# Altium schematic symbol library WE-PD.SchLib: 12 symbols
Pins are listed as number, name and electrical type; pins without a type are passive.

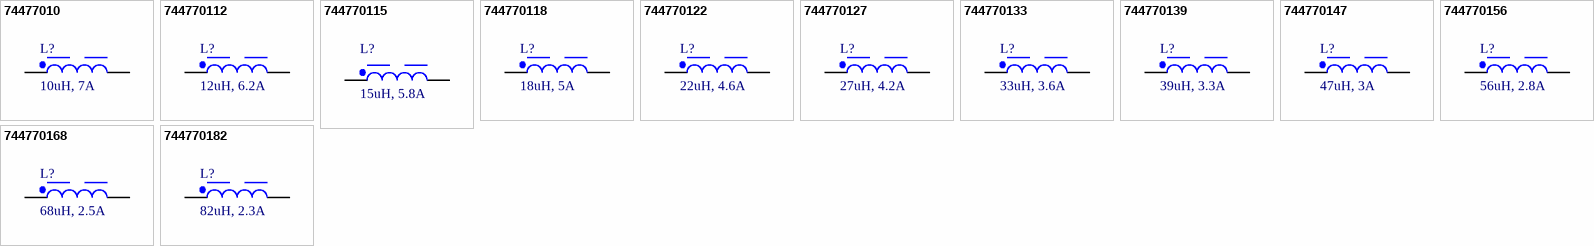
[diagram p0: symbols 74477010 to 744770182]

## 74477010
designator L?, comment 10uH, 7A
WE-PD SMT Power Inductor, size 1280, 10uH, 7A, 20mOhm; Manufacturer Part Number: 74477010; Manufacturer: Wurth Elektronik; Case/Size Code: 1280; DC Resistance: 15mOhm; Saturation Current: 7.5A; Self Resonant Frequency: 18MHz; Type: Standard; Category: Power Inductors; Match Code: WE-PD; ComponentLink1Description: Datasheet; ComponentLink1URL: https://www.we-online.com/redexpert/spec/74477010?ad; Mount: Surface Mount; Operating Temperature Max: 125°C; Operating Temperature Min: -40°C; Packaging: Tape and Reel; Length: 12mm; Width: 12mm; Height: 8mm; DC Resistance Max: 20mOhm; Inductance: 10uH; Rated Current: 7A; Supplier 1 URL: https://www.mouser.com/ProductDetail/Wurth-Elektronik/74477010?qs=E%2F%2FhvbtCqpN9eEwYoxClfg%3D%3D&utm_source=mouser-refine-download&utm_medium=file&utm_campaign=74477010&utm_content=Wurth-Elektronik; Supplier 2 URL: https://www.digikey.com/en/products/detail/w%C3%BCrth-elektronik/74477010/1638628; Supplier 3 URL: https://www.thegioiic.com/cdrh127-cuon-cam-dan-smd-1280-100-10uh-7-8a; Value: 10uH, 7A; LCSC Part #: N/A; Supplier 1: Mouser; Supplier 1 Part Number: 710-74477010; Supplier 2: Digi-Key; Supplier 2 Part Number: 732-1223-2-ND; Supplier 3: thegioiic; Supplier 3 Part Number: N/A
footprint WE-PD_1280
simulation model 1280_74477010_10u
pins: 1, 2

## 744770112
designator L?, comment 12uH, 6.2A
WE-PD SMT Power Inductor, size 1280, 12uH, 6.2A, 21mOhm; Manufacturer Part Number: 744770112; Manufacturer: Wurth Elektronik; Case/Size Code: 1280; DC Resistance: 16mOhm; Saturation Current: 6.5A; Self Resonant Frequency: 16MHz; Type: Standard; Category: Power Inductors; Match Code: WE-PD; ComponentLink1Description: Datasheet; ComponentLink1URL: https://www.we-online.com/redexpert/spec/744770112?ad; Mount: Surface Mount; Operating Temperature Max: 125°C; Operating Temperature Min: -40°C; Packaging: Tape and Reel; Length: 12mm; Width: 12mm; Height: 8mm; DC Resistance Max: 21mOhm; Inductance: 12uH; Rated Current: 6.2A; Supplier 1 URL: https://www.mouser.com/ProductDetail/Wurth-Elektronik/744770112?qs=E%2F%2FhvbtCqpOJhaQEzaGKow%3D%3D&utm_source=mouser-refine-download&utm_medium=file&utm_campaign=744770112&utm_content=Wurth-Elektronik; Supplier 2 URL: https://www.digikey.com/en/products/detail/w%C3%BCrth-elektronik/744770112/1638629; Supplier 3 URL: https://www.thegioiic.com/cdrh127-cuon-cam-dan-smd-1280-120-12uh-7-5a; Value: 12uH, 6.2A; LCSC Part #: N/A; Supplier 1: Mouser; Supplier 1 Part Number: 710-744770112; Supplier 2: Digi-Key; Supplier 2 Part Number: 732-1224-2-ND; Supplier 3: thegioiic; Supplier 3 Part Number: N/A
footprint WE-PD_1280
simulation model 1280_744770112_12u
pins: 1, 2

## 744770115
designator L?, comment 15uH, 5.8A
WE-PD SMT Power Inductor, size 1280, 15uH, 5.8A, 23mOhm; Manufacturer Part Number: 744770115; Manufacturer: Wurth Elektronik; Case/Size Code: 1280; DC Resistance: 18mOhm; Saturation Current: 6A; Self Resonant Frequency: 14.5MHz; Type: Standard; Category: Power Inductors; Match Code: WE-PD; ComponentLink1Description: Datasheet; ComponentLink1URL: https://www.we-online.com/redexpert/spec/744770115?ad; Mount: Surface Mount; Operating Temperature Max: 125°C; Operating Temperature Min: -40°C; Packaging: Tape and Reel; Length: 12mm; Width: 12mm; Height: 8mm; DC Resistance Max: 23mOhm; Inductance: 15uH; Rated Current: 5.8A; Supplier 1 URL: https://www.mouser.com/ProductDetail/Wurth-Elektronik/744770115?qs=E%2F%2FhvbtCqpM85OsQhMxYHw%3D%3D&utm_source=mouser-refine-download&utm_medium=file&utm_campaign=744770115&utm_content=Wurth-Elektronik; Supplier 2 URL: https://www.digikey.com/en/products/detail/w%C3%BCrth-elektronik/744770115/1638630; Supplier 3 URL: https://www.thegioiic.com/cdrh127-cuon-cam-dan-smd-1280-150-15uh-7-1a; Value: 15uH, 5.8A; LCSC Part #: N/A; Supplier 1: Mouser; Supplier 1 Part Number: 710-744770115; Supplier 2: Digi-Key; Supplier 2 Part Number: 732-1225-2-ND; Supplier 3: thegioiic; Supplier 3 Part Number: N/A
footprint WE-PD_1280
simulation model 1280_744770115_15u
pins: 1, 2

## 744770118
designator L?, comment 18uH, 5A
WE-PD SMT Power Inductor, size 1280, 18uH, 5A, 32mOhm; Manufacturer Part Number: 744770118; Manufacturer: Wurth Elektronik; Case/Size Code: 1280; DC Resistance: 25mOhm; Saturation Current: 5.4A; Self Resonant Frequency: 13.2MHz; Type: Standard; Category: Power Inductors; Match Code: WE-PD; ComponentLink1Description: Datasheet; ComponentLink1URL: https://www.we-online.com/redexpert/spec/744770118?ad; Mount: Surface Mount; Operating Temperature Max: 125°C; Operating Temperature Min: -40°C; Packaging: Tape and Reel; Length: 12mm; Width: 12mm; Height: 8mm; DC Resistance Max: 32mOhm; Inductance: 18uH; Rated Current: 5A; Supplier 1 URL: https://www.mouser.com/ProductDetail/Wurth-Elektronik/744770118?qs=E%2F%2FhvbtCqpMjsE8jVdqxTg%3D%3D&utm_source=mouser-refine-download&utm_medium=file&utm_campaign=744770118&utm_content=Wurth-Elektronik; Supplier 2 URL: https://www.digikey.com/en/products/detail/w%C3%BCrth-elektronik/744770118/1638631; Supplier 3 URL: https://www.thegioiic.com/cdrh127-cuon-cam-dan-smd-1280-180-18uh-6-6a; Value: 18uH, 5A; LCSC Part #: N/A; Supplier 1: Mouser; Supplier 1 Part Number: 710-744770118; Supplier 2: Digi-Key; Supplier 2 Part Number: 732-1226-2-ND; Supplier 3: thegioiic; Supplier 3 Part Number: N/A
footprint WE-PD_1280
simulation model 1280_744770118_18u
pins: 1, 2

## 744770122
designator L?, comment 22uH, 4.6A
WE-PD SMT Power Inductor, size 1280, 22uH, 4.6A, 35mOhm; Manufacturer Part Number: 744770122; Manufacturer: Wurth Elektronik; Case/Size Code: 1280; DC Resistance: 29mOhm; Saturation Current: 5A; Self Resonant Frequency: 12MHz; Type: Standard; Category: Power Inductors; Match Code: WE-PD; ComponentLink1Description: Datasheet; ComponentLink1URL: https://www.we-online.com/redexpert/spec/744770122?ad; Mount: Surface Mount; Operating Temperature Max: 125°C; Operating Temperature Min: -40°C; Packaging: Tape and Reel; Length: 12mm; Width: 12mm; Height: 8mm; DC Resistance Max: 35mOhm; Inductance: 22uH; Rated Current: 4.6A; Supplier 1 URL: https://www.mouser.com/ProductDetail/Wurth-Elektronik/744770122?qs=E%2F%2FhvbtCqpMCCo%252BOKEdKOA%3D%3D&utm_source=mouser-refine-download&utm_medium=file&utm_campaign=744770122&utm_content=Wurth-Elektronik; Supplier 2 URL: https://www.digikey.com/en/products/detail/w%C3%BCrth-elektronik/744770122/1638632; Supplier 3 URL: https://www.thegioiic.com/cdrh127-cuon-cam-dan-smd-1280-220-22uh-6-3a; Value: 22uH, 4.6A; LCSC Part #: N/A; Supplier 1: Mouser; Supplier 1 Part Number: 710-744770122; Supplier 2: Digi-Key; Supplier 2 Part Number: 732-1227-2-ND; Supplier 3: thegioiic; Supplier 3 Part Number: N/A
footprint WE-PD_1280
simulation model 1280_744770122_22u
pins: 1, 2

## 744770127
designator L?, comment 27uH, 4.2A
WE-PD SMT Power Inductor, size 1280, 27uH, 4.2A, 38mOhm; Manufacturer Part Number: 744770127; Manufacturer: Wurth Elektronik; Case/Size Code: 1280; DC Resistance: 31mOhm; Saturation Current: 4.3A; Self Resonant Frequency: 10MHz; Type: Standard; Category: Power Inductors; Match Code: WE-PD; ComponentLink1Description: Datasheet; ComponentLink1URL: https://www.we-online.com/redexpert/spec/744770127?ad; Mount: Surface Mount; Operating Temperature Max: 125°C; Operating Temperature Min: -40°C; Packaging: Tape and Reel; Length: 12mm; Width: 12mm; Height: 8mm; DC Resistance Max: 38mOhm; Inductance: 27uH; Rated Current: 4.2A; Supplier 1 URL: https://www.mouser.com/ProductDetail/Wurth-Elektronik/744770127?qs=E%2F%2FhvbtCqpO8LDc2teDyXQ%3D%3D&utm_source=mouser-refine-download&utm_medium=file&utm_campaign=744770127&utm_content=Wurth-Elektronik; Supplier 2 URL: https://www.digikey.com/en/products/detail/w%C3%BCrth-elektronik/744770127/1638633; Supplier 3 URL: https://www.thegioiic.com/cdrh127-cuon-cam-dan-smd-1280-270-27uh-5-7a; Value: 27uH, 4.2A; LCSC Part #: N/A; Supplier 1: Mouser; Supplier 1 Part Number: 710-744770127; Supplier 2: Digi-Key; Supplier 2 Part Number: 732-1228-2-ND; Supplier 3: thegioiic; Supplier 3 Part Number: N/A
footprint WE-PD_1280
simulation model 1280_744770127_27u
pins: 1, 2

## 744770133
designator L?, comment 33uH, 3.6A
WE-PD SMT Power Inductor, size 1280, 33uH, 3.6A, 53mOhm; Manufacturer Part Number: 744770133; Manufacturer: Wurth Elektronik; Case/Size Code: 1280; DC Resistance: 44mOhm; Saturation Current: 3.9A; Self Resonant Frequency: 8.5MHz; Type: Standard; Category: Power Inductors; Match Code: WE-PD; ComponentLink1Description: Datasheet; ComponentLink1URL: https://www.we-online.com/redexpert/spec/744770133?ad; Mount: Surface Mount; Operating Temperature Max: 125°C; Operating Temperature Min: -40°C; Packaging: Tape and Reel; Length: 12mm; Width: 12mm; Height: 8mm; DC Resistance Max: 53mOhm; Inductance: 33uH; Rated Current: 3.6A; Supplier 1 URL: https://www.mouser.com/ProductDetail/Wurth-Elektronik/744770133?qs=E%2F%2FhvbtCqpPKkGJl8TxFXw%3D%3D&utm_source=mouser-refine-download&utm_medium=file&utm_campaign=744770133&utm_content=Wurth-Elektronik; Supplier 2 URL: https://www.digikey.com/en/products/detail/w%C3%BCrth-elektronik/744770133/1638634; Supplier 3 URL: https://www.thegioiic.com/cdrh127-cuon-cam-dan-smd-1280-330-33uh-4-2a; Value: 33uH, 3.6A; LCSC Part #: C2924828; Supplier 1: Mouser; Supplier 1 Part Number: 710-744770133; Supplier 2: Digi-Key; Supplier 2 Part Number: 732-1229-2-ND; Supplier 3: thegioiic; Supplier 3 Part Number: N/A
footprint WE-PD_1280
simulation model 1280_744770133_33u
pins: 1, 2

## 744770139
designator L?, comment 39uH, 3.3A
WE-PD SMT Power Inductor, size 1280, 39uH, 3.3A, 56mOhm; Manufacturer Part Number: 744770139; Manufacturer: Wurth Elektronik; Case/Size Code: 1280; DC Resistance: 47mOhm; Saturation Current: 3.6A; Self Resonant Frequency: 8.2MHz; Type: Standard; Category: Power Inductors; Match Code: WE-PD; ComponentLink1Description: Datasheet; ComponentLink1URL: https://www.we-online.com/redexpert/spec/744770139?ad; Mount: Surface Mount; Operating Temperature Max: 125°C; Operating Temperature Min: -40°C; Packaging: Tape and Reel; Length: 12mm; Width: 12mm; Height: 8mm; DC Resistance Max: 56mOhm; Inductance: 39uH; Rated Current: 3.3A; Supplier 1 URL: https://www.mouser.com/ProductDetail/Wurth-Elektronik/744770139?qs=E%2F%2FhvbtCqpNi16tK84wUHQ%3D%3D&utm_source=mouser-refine-download&utm_medium=file&utm_campaign=744770139&utm_content=Wurth-Elektronik; Supplier 2 URL: https://www.digikey.com/en/products/detail/w%C3%BCrth-elektronik/744770139/1638635; Supplier 3 URL: https://www.thegioiic.com/cdrh127-cuon-cam-dan-smd-1280-390-39uh-4-5a; Value: 39uH, 3.3A; LCSC Part #: N/A; Supplier 1: Mouser; Supplier 1 Part Number: 710-744770139; Supplier 2: Digi-Key; Supplier 2 Part Number: 732-1230-2-ND; Supplier 3: thegioiic; Supplier 3 Part Number: N/A
footprint WE-PD_1280
simulation model 1280_744770139_39u
pins: 1, 2

## 744770147
designator L?, comment 47uH, 3A
WE-PD SMT Power Inductor, size 1280, 47uH, 3A, 64mOhm; Manufacturer Part Number: 744770147; Manufacturer: Wurth Elektronik; Case/Size Code: 1280; DC Resistance: 53mOhm; Saturation Current: 3.3A; Self Resonant Frequency: 7.9MHz; Type: Standard; Category: Power Inductors; Match Code: WE-PD; ComponentLink1Description: Datasheet; ComponentLink1URL: https://www.we-online.com/redexpert/spec/744770147?ad; Mount: Surface Mount; Operating Temperature Max: 125°C; Operating Temperature Min: -40°C; Packaging: Tape and Reel; Length: 12mm; Width: 12mm; Height: 8mm; DC Resistance Max: 64mOhm; Inductance: 47uH; Rated Current: 3A; Supplier 1 URL: https://www.mouser.com/ProductDetail/Wurth-Elektronik/744770147?qs=E%2F%2FhvbtCqpOiGvqyq%252BELzg%3D%3D&utm_source=mouser-refine-download&utm_medium=file&utm_campaign=744770147&utm_content=Wurth-Elektronik; Supplier 2 URL: https://www.digikey.com/en/products/detail/w%C3%BCrth-elektronik/744770147/1638636; Supplier 3 URL: https://www.thegioiic.com/cdrh127-cuon-cam-dan-smd-1280-470-47uh-3-25a; Value: 47uH, 3A; LCSC Part #: N/A; Supplier 1: Mouser; Supplier 1 Part Number: 710-744770147; Supplier 2: Digi-Key; Supplier 2 Part Number: 732-1231-2-ND; Supplier 3: thegioiic; Supplier 3 Part Number: N/A
footprint WE-PD_1280
simulation model 1280_744770147_47u
pins: 1, 2

## 744770156
designator L?, comment 56uH, 2.8A
WE-PD SMT Power Inductor, size 1280, 56uH, 2.8A, 71mOhm; Manufacturer Part Number: 744770156; Manufacturer: Wurth Elektronik; Case/Size Code: 1280; DC Resistance: 59mOhm; Saturation Current: 3A; Self Resonant Frequency: 7.1MHz; Type: Standard; Category: Power Inductors; Match Code: WE-PD; ComponentLink1Description: Datasheet; ComponentLink1URL: https://www.we-online.com/redexpert/spec/744770156?ad; Mount: Surface Mount; Operating Temperature Max: 125°C; Operating Temperature Min: -40°C; Packaging: Tape and Reel; Length: 12mm; Width: 12mm; Height: 8mm; DC Resistance Max: 71mOhm; Inductance: 56uH; Rated Current: 2.8A; Supplier 1 URL: https://www.mouser.com/ProductDetail/Wurth-Elektronik/744770156?qs=E%2F%2FhvbtCqpNroL9ZoOQUWg%3D%3D&utm_source=mouser-refine-download&utm_medium=file&utm_campaign=744770156&utm_content=Wurth-Elektronik; Supplier 2 URL: https://www.digikey.com/en/products/detail/w%C3%BCrth-elektronik/744770156/1638637; Supplier 3 URL: https://www.thegioiic.com/cdrh127-cuon-cam-dan-smd-1280-560-56uh-3-6a; Value: 56uH, 2.8A; LCSC Part #: N/A; Supplier 1: Mouser; Supplier 1 Part Number: 710-744770156; Supplier 2: Digi-Key; Supplier 2 Part Number: 732-1232-2-ND; Supplier 3: thegioiic; Supplier 3 Part Number: N/A
footprint WE-PD_1280
simulation model 1280_744770156_56u
pins: 1, 2

## 744770168
designator L?, comment 68uH, 2.5A
WE-PD SMT Power Inductor, size 1280, 68uH, 2.5A, 90mOhm; Manufacturer Part Number: 744770168; Manufacturer: Wurth Elektronik; Case/Size Code: 1280; DC Resistance: 76mOhm; Saturation Current: 2.7A; Self Resonant Frequency: 6.4MHz; Type: Standard; Category: Power Inductors; Match Code: WE-PD; ComponentLink1Description: Datasheet; ComponentLink1URL: https://www.we-online.com/redexpert/spec/744770168?ad; Mount: Surface Mount; Operating Temperature Max: 125°C; Operating Temperature Min: -40°C; Packaging: Tape and Reel; Length: 12mm; Width: 12mm; Height: 8mm; DC Resistance Max: 90mOhm; Inductance: 68uH; Rated Current: 2.5A; Supplier 1 URL: https://www.mouser.com/ProductDetail/Wurth-Elektronik/744770168?qs=E%2F%2FhvbtCqpPwpKkBv2vMpA%3D%3D&utm_source=mouser-refine-download&utm_medium=file&utm_campaign=744770168&utm_content=Wurth-Elektronik; Supplier 2 URL: https://www.digikey.com/en/products/detail/w%C3%BCrth-elektronik/744770168/1638638; Supplier 3 URL: https://www.thegioiic.com/cdrh127-cuon-cam-dan-smd-1280-680-68uh-3-2a; Value: 68uH, 2.5A; LCSC Part #: N/A; Supplier 1: Mouser; Supplier 1 Part Number: 710-744770168; Supplier 2: Digi-Key; Supplier 2 Part Number: 732-1233-2-ND; Supplier 3: thegioiic; Supplier 3 Part Number: N/A
footprint WE-PD_1280
simulation model 1280_744770168_68u
pins: 1, 2

## 744770182
designator L?, comment 82uH, 2.3A
WE-PD SMT Power Inductor, size 1280, 82uH, 2.3A, 105mOhm; Manufacturer Part Number: 744770182; Manufacturer: Wurth Elektronik; Case/Size Code: 1280; DC Resistance: 86mOhm; Saturation Current: 2.5A; Self Resonant Frequency: 3.5MHz; Type: Standard; Category: Power Inductors; Match Code: WE-PD; ComponentLink1Description: Datasheet; ComponentLink1URL: https://www.we-online.com/redexpert/spec/744770182?ad; Mount: Surface Mount; Operating Temperature Max: 125°C; Operating Temperature Min: -40°C; Packaging: Tape and Reel; Length: 12mm; Width: 12mm; Height: 8mm; DC Resistance Max: 105mOhm; Inductance: 82uH; Rated Current: 2.3A; Supplier 1 URL: https://www.mouser.com/ProductDetail/Wurth-Elektronik/744770182?qs=E%2F%2FhvbtCqpMetle%2FMtY%2FbA%3D%3D&utm_source=mouser-refine-download&utm_medium=file&utm_campaign=744770182&utm_content=Wurth-Elektronik; Supplier 2 URL: https://www.digikey.com/en/products/detail/w%C3%BCrth-elektronik/744770182/1638639; Supplier 3 URL: https://www.thegioiic.com/cdrh127-cuon-cam-dan-smd-1280-820-82uh-2-95a; Value: 82uH, 2.3A; LCSC Part #: N/A; Supplier 1: Mouser; Supplier 1 Part Number: 710-744770182; Supplier 2: Digi-Key; Supplier 2 Part Number: 732-1234-2-ND; Supplier 3: thegioiic; Supplier 3 Part Number: N/A
footprint WE-PD_1280
simulation model 1280_744770182_82u
pins: 1, 2